# Altium schematic symbol library Sheet1.SCHLIB: 8 symbols
Pins are listed as number, name and electrical type; pins without a type are passive.

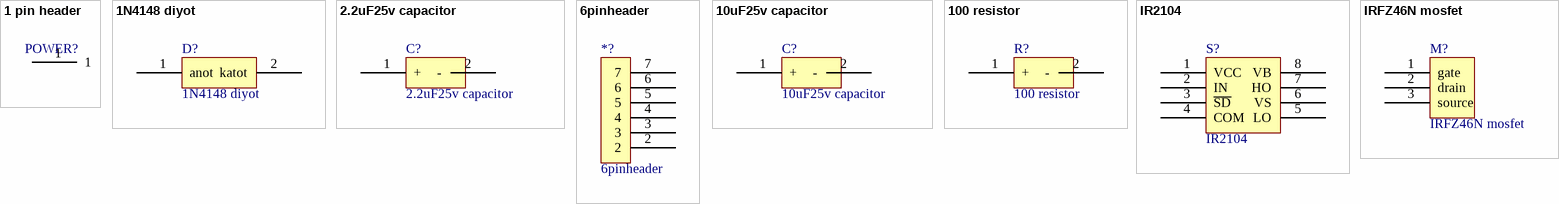
[diagram p0: symbols 1 pin header to IRFZ46N mosfet]

## 1 pin header
designator POWER?
footprint 1pinheader
pins: 1

## 1N4148 diyot
designator D?
footprint 1N4148 diyot
pins: 1 anot, 2 katot

## 2.2uF25v capacitor
designator C?
footprint 2.2uf25v capacitor
pins: 1 +, 2 -

## 6pinheader
designator *?
footprint 6pinheader
pins: 2, 3, 4, 5, 6, 7

## 10uF25v capacitor
designator C?
footprint 10uf25V capacitor
pins: 1 +, 2 -

## 100 resistor
designator R?
footprint 100 resistor
pins: 1 +, 2 -

## IR2104
designator S?
footprint IR2104 mos sürücü (SOIC, 8-Leads, Body 4,90x3,90mm, Pitch 1,27mm, IPC Medium Density)
pins: 1 VCC, 2 IN, 3 ~{SD}, 4 COM, 5 LO, 6 VS, 7 HO, 8 VB

## IRFZ46N mosfet
designator M?
footprint IRFZ46N mosfet
pins: 1 gate, 2 drain, 3 source